# EAGLE library part PIC12F675 (library omcPIC)
PIC12F675 - 8-Pin FLASH-Based 8-Bit CMOS Microcontrollers High Performance RISC CPU: Only 35 instructions All single cycle instructions except branches Operating speed: DC - 20 MHz oscillator/clock input DC - 200 ns instruction cycle Interrupt capability 8-level deep hardware stack Direct, Indirect, and Relative Addressing modes Special Microcontroller Features: Internal and external oscillator options Precision Internal 4 MHz oscillator factory calibrated to ±1% External Oscillator support for crystals and resonators 5 µs wake-up from SLEEP, 3.0V, typical Power saving SLEEP mode Wide operating voltage range - 2.0V to 5.5V Industrial and Extended temperature range Low power Power-on Reset (POR) Power-up Timer (PWRT) and Oscillator Start-up Timer (OST) Brown-out Detect (BOD) Watchdog Timer (WDT) with independent oscillator for reliable operation Multiplexed MCLR/Input-pin Interrupt-on-pin change Individual programmable weak pull-ups Programmable code protection High Endurance FLASH/EEPROM Cell 100,000 write FLASH endurance 1,000,000 write EEPROM endurance FLASH/Data EEPROM Retention: > 40 years Low Power Features: Standby Current: 1 nA @ 2.0V, typical Operating Current: 8.5 µA @ 32 kHz, 2.0V, typical 100 µA @ 1 MHz, 2.0V, typical Watchdog Timer Current: 300 nA @ 2.0V, typical Timer1 oscillator current: 4 µA @ 32 kHz, 2.0V, typical Peripheral Features: 6 I/O pins with individual direction control High current sink/source for direct LED drive Analog comparator module with: One analog comparator Programmable on-chip comparator voltage reference (CVREF) module Programmable input multiplexing from device inputs Comparator output is externally accessible Analog-to-Digital Converter module: 10-bit resolution Programmable 4-channel input Voltage reference input Timer0: 8-bit timer/counter with 8-bit programmable prescaler Enhanced Timer1: 16-bit timer/counter with prescaler External Gate Input mode Option to use OSC1 and OSC2 in LP mode as Timer1 oscillator, if INTOSC mode selected In-Circuit Serial Programming (ICSP) via two pins Reference: Microchip Datasheet <http://ww1.microchip.com/downloads/en/DeviceDoc/41190G.pdf> Reichelt Datasheet <http://cdn-reichelt.de/documents/datenblatt/A300/PIC12F629_PIC12F675%23MIC.pdf>
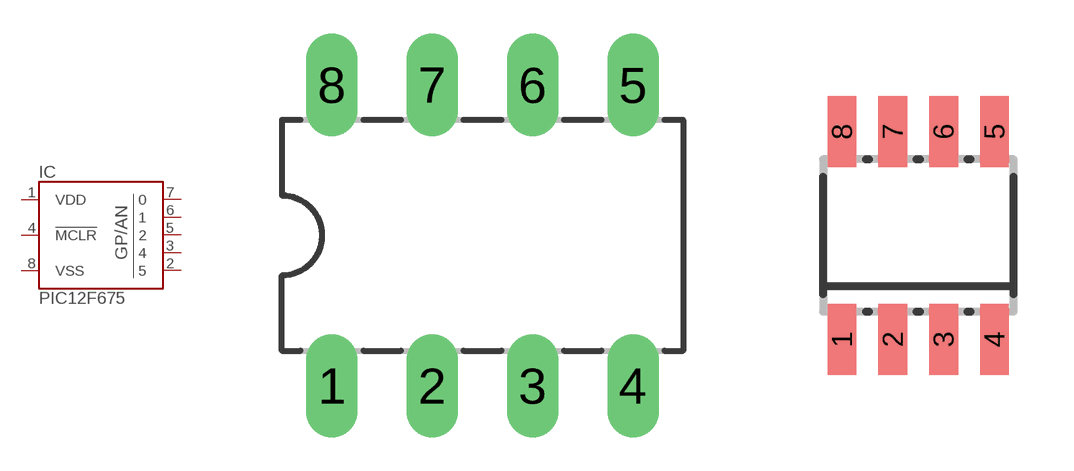
[diagram p0: symbol with the pads of DIL08; footprints DIL08, SOIC08]

Designator prefix IC

## PIC12F675P (DIST#REICHELT#: PIC 12F675-I/P; VALUE: PIC12F675; VENDOR#: Microchip,PIC12F675-I/P)  [DIL08]
1  VDD  pwr
2  5
3  4
4  !MCLR!  in
5  2
6  1
7  0
8  VSS  pwr

## PIC12F675SN (DIST#REICHELT#: PIC 12F675-I/SN; VALUE: PIC12F675; VENDOR#: Microchip#PIC12F675-I/SN)  [SOIC08]
Pads as for DIL08

## Footprint DIL08 (pad centres in mm)
DIL8 Dual-in-line package THT 10.16mm×7.62mm Wikipedia <https://en.wikipedia.org/wiki/Dual_in-line_package>
drill 0.8 long: 1 -3.81,-3.81; 2 -1.27,-3.81; 3 1.27,-3.81; 4 3.81,-3.81; 5 3.81,3.81; 6 1.27,3.81; 7 -1.27,3.81; 8 -3.81,3.81

## Footprint SOIC08 (pad centres in mm)
SOIC08 SMD 5mm×6.2mm Wikipedia <https://en.wikipedia.org/wiki/Small_Outline_Integrated_Circuit>
smd 0.72 x 1.78: 1 -1.905,-2.6; 2 -0.635,-2.6; 3 0.635,-2.6; 4 1.905,-2.6; 5 1.905,2.6; 6 0.635,2.6; 7 -0.635,2.6; 8 -1.905,2.6